# EAGLE library part VL53L0X (library ST Microelectronics)
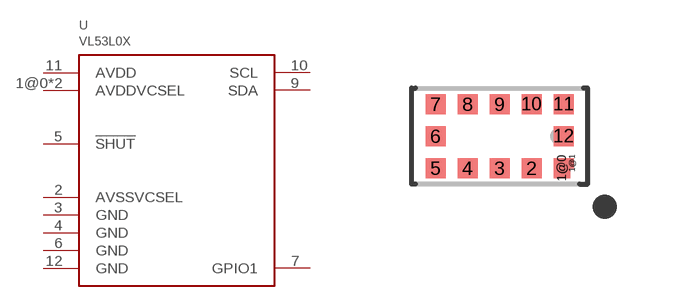
[diagram p3: symbol with the pads of VL53L0X; footprint VL53L0X]

Designator prefix U

## VL53L0X  [VL53L0X]
1@0  AVDDVCSEL  pwr
1@1  AVDDVCSEL  pwr
2  AVSSVCSEL  pwr
3  GND  pwr
4  GND  pwr
5  !SHUT
6  GND  pwr
7  GPIO1
9  SDA
10  SCL
11  AVDD  pwr
12  GND  pwr

## Footprint VL53L0X (pad centres in mm)
smd 0.42 x 0.5: 1@0 1.56,-0.8
smd 0.08 x 0.25: 1@1 1.81,-0.675
smd 0.5 x 0.5: 2 0.8,-0.8; 3 0,-0.8; 4 -0.8,-0.8; 5 -1.6,-0.8; 6 -1.6,0; 7 -1.6,0.8; 8 -0.8,0.8; 9 0,0.8; 10 0.8,0.8; 11 1.6,0.8; 12 1.6,0